# Altium schematic symbol library toshiba-transistor.SchLib: 2 symbols
Pins are listed as number, name and electrical type; pins without a type are passive.

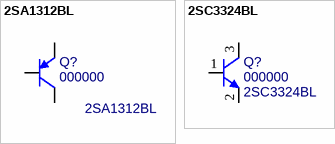
[diagram p0: symbols 2SA1312BL to 2SC3324BL]

## 2SA1312BL
designator Q?, comment 000000  value 2SA1312BL
PNP Transistor, -120V, -50mA; PN: 000000; Package: SOT-23; ExtraInfo: *
signal-integrity model PNP
footprint SOT-23-M (SOT23, 3-Leads, Body 3.0x2.8mm (max), Pitch 0.95mm, Medium Density)
footprint SOT-23-HV (SOT23, 3-Leads, Body 3.0x2.8mm (max), Pitch 0.95mm, IPC High Density)
pins: 1 B, 2 E, 3 C

## 2SC3324BL
designator Q?, comment 000000  value 2SC3324BL
NPN Transistor, 120V, 50mA; PN: 000000; Package: SOT-23; ExtraInfo: *
footprint SOT-23-M (SOT23, 3-Leads, Body 3.0x2.8mm (max), Pitch 0.95mm, Medium Density)
footprint SOT-23-HV (SOT23, 3-Leads, Body 3.0x2.8mm (max), Pitch 0.95mm, IPC High Density)
pins: 1 B, 2 E, 3 C